# Altium integrated library C1206C105J3RACTU.IntLib: 1 symbol
Pins are listed as number, name and electrical type; pins without a type are passive.

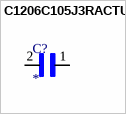
[diagram p0: symbol C1206C105J3RACTU]

## C1206C105J3RACTU
designator C?
CAP CER 1UF 25V X7R 1206; MP: C1206C105J3RACTU; Package: None; Price: None; Value: *; Availability: Unavailable
footprint CAPC3216X110N
pins: 1, 2